# Altium footprint library WR-TBL_Rising Cage Clamp_5.08mm.PcbLib: 81 footprints (part 4 of 6)
Each footprint in its own frame and in the unit in brackets; x right, y up, seen from the top. Pads: shape width x height; smd on the part's side, far side on the other; paste and mask are expansions set on the pad; w line width, h text height; cw(c..) or ccw(c..) is an arc to the next point about the centre after c.
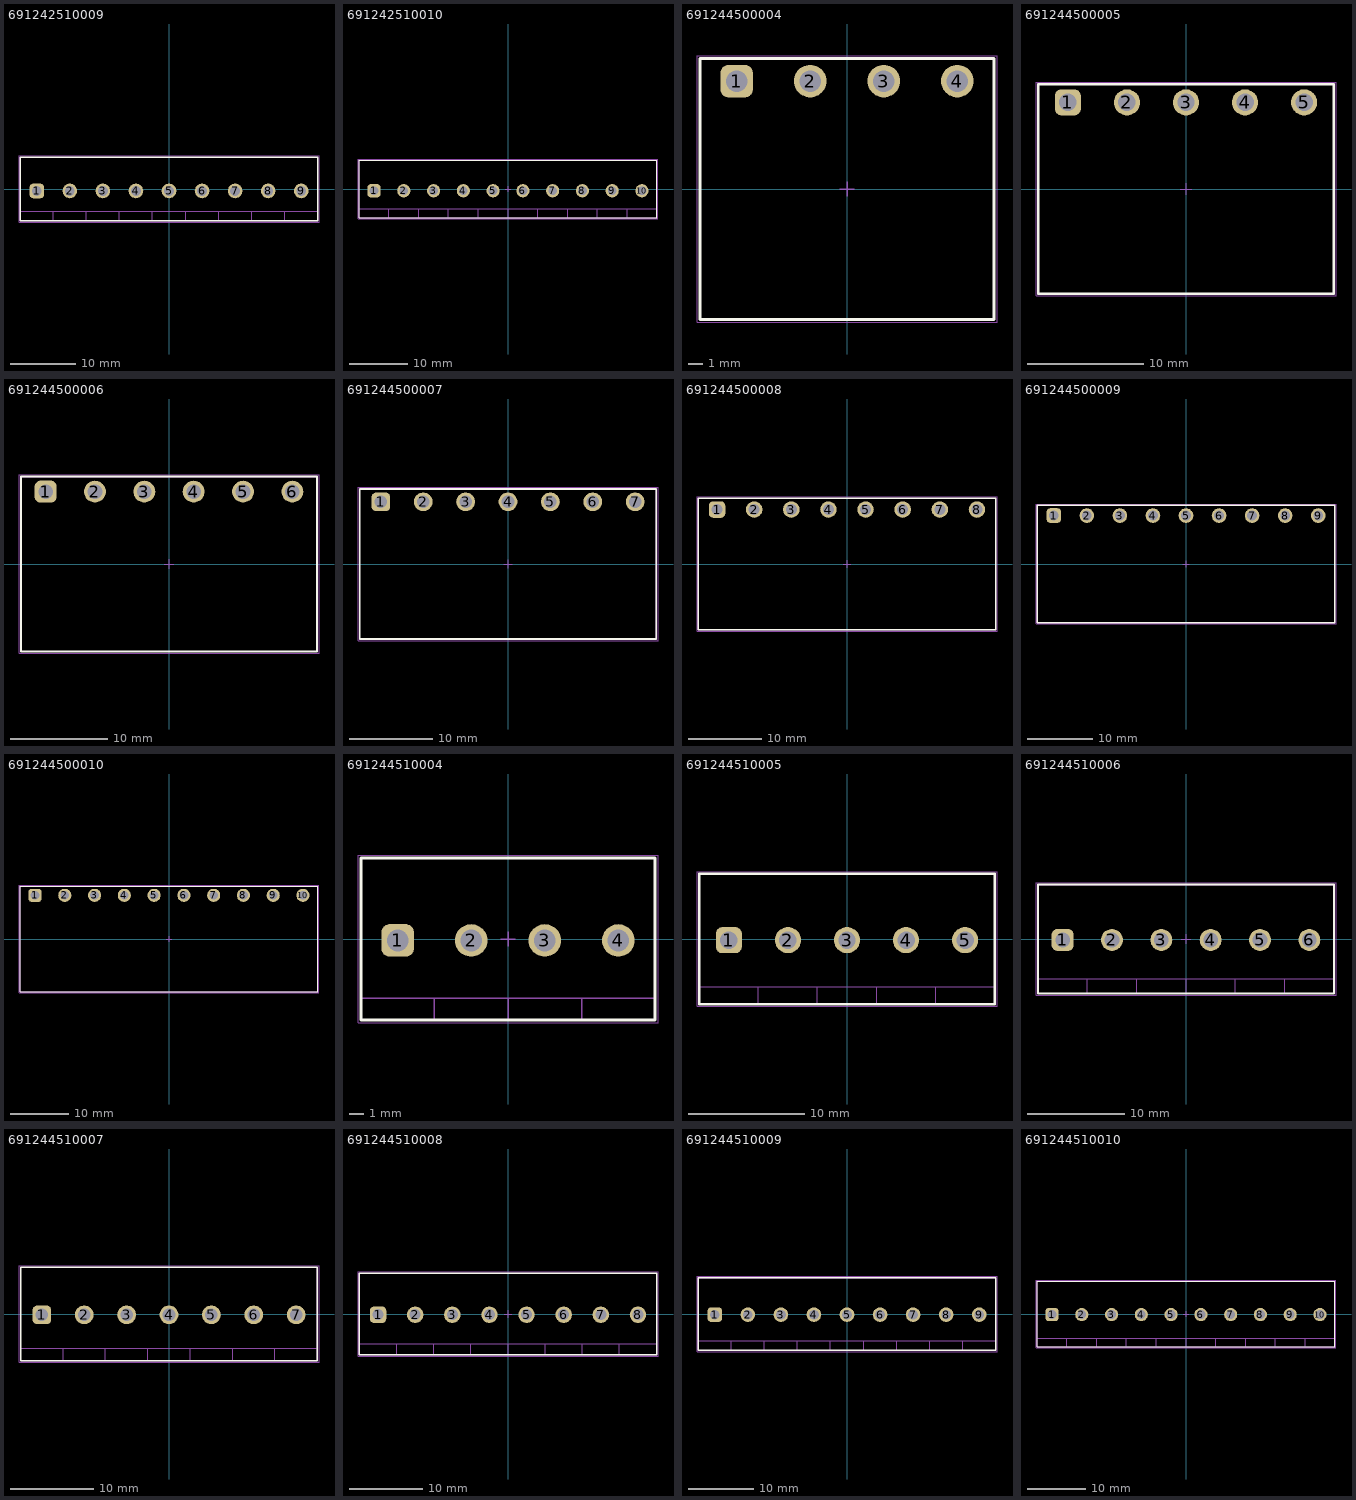
[diagram p3: the footprints below, top view; thin cyan lines are the x and y axes]

## 691242510009 [mm] "Serie 2425 - 5.08 mm _ 9 pins"
height 13.8
pads (9):
  rrect50% 2.25x2.25 hole 1.5: 1(-20.32,-0.3)
  round 2.25 hole 1.5: 2(-15.24,-0.3) 3(-10.16,-0.3) 4(-5.08,-0.3) 5(0,-0.3) 6(5.08,-0.3) 7(10.16,-0.3) 8(15.24,-0.3) 9(20.32,-0.3)
Top Overlay:
  lines w0.2: -22.86,-4.9 22.86,-4.9 22.86,4.9 -22.86,4.9 -22.86,-4.9
Top Assembly:
  lines w0.1: -22.86,-3.4 22.86,-3.4 ; -17.78,-4.9 -17.78,-3.4 ; -12.7,-4.9 -12.7,-3.4 ; -7.62,-4.9 -7.62,-3.4 ; -2.54,-4.9 -2.54,-3.4 ; 2.54,-4.9 2.54,-3.4 ; 7.62,-4.9 7.62,-3.4 ; 12.7,-4.9 12.7,-3.4 ; 17.78,-4.9 17.78,-3.4 ; -22.86,-4.9 -22.86,4.9 22.86,4.9 22.86,-4.9 -22.86,-4.9
Top Designator:
  text ".Designator" at -3.647,-0.357 h1
Top 3D Body:
  lines w0.1: -22.86,-3.4 22.86,-3.4 ; -17.78,-4.9 -17.78,-3.4 ; -12.7,-4.9 -12.7,-3.4 ; -7.62,-4.9 -7.62,-3.4 ; -2.54,-4.9 -2.54,-3.4 ; 2.54,-4.9 2.54,-3.4 ; 7.62,-4.9 7.62,-3.4 ; 12.7,-4.9 12.7,-3.4 ; 17.78,-4.9 17.78,-3.4 ; -22.86,-4.9 22.86,-4.9 22.86,4.9 -22.86,4.9 -22.86,-4.9
Top Courtyard:
  lines w0.05: -23.06,-5.1 -23.06,5.1 23.06,5.1 23.06,-5.1 -23.06,-5.1
Top Component Center:
  lines w0.1: -0.5,0 0.5,0 ; 0,-0.5 0,0.5
3D body "691242510009.stp": height 13.85, standoff -3.45, extent -22.86,-4.9 22.86,4.9

## 691242510010 [mm] "Serie 2425 - 5.08 mm _ 10 pins"
height 13.8
pads (10):
  rrect50% 2.25x2.25 hole 1.5: 1(-22.86,-0.3)
  round 2.25 hole 1.5: 2(-17.78,-0.3) 3(-12.7,-0.3) 4(-7.62,-0.3) 5(-2.54,-0.3) 6(2.54,-0.3) 7(7.62,-0.3) 8(12.7,-0.3) 9(17.78,-0.3) 10(22.86,-0.3)
Top Overlay:
  lines w0.2: -25.4,-4.9 25.4,-4.9 25.4,4.9 -25.4,4.9 -25.4,-4.9
Top Assembly:
  lines w0.1: -25.4,-3.4 25.4,-3.4 ; -20.32,-4.9 -20.32,-3.4 ; -15.24,-4.9 -15.24,-3.4 ; -10.16,-4.9 -10.16,-3.4 ; -5.08,-4.9 -5.08,-3.4 ; 0,-4.9 0,-3.4 ; 5.08,-4.9 5.08,-3.4 ; 10.16,-4.9 10.16,-3.4 ; 15.24,-4.9 15.24,-3.4 ; 20.32,-4.9 20.32,-3.4 ; -25.4,-4.9 -25.4,4.9 25.4,4.9 25.4,-4.9 -25.4,-4.9
Top Designator:
  text ".Designator" at -3.647,-0.357 h1
Top 3D Body:
  lines w0.1: -25.4,-3.4 25.4,-3.4 ; -20.32,-4.9 -20.32,-3.4 ; -15.24,-4.9 -15.24,-3.4 ; -10.16,-4.9 -10.16,-3.4 ; -5.08,-4.9 -5.08,-3.4 ; 0,-4.9 0,-3.4 ; 5.08,-4.9 5.08,-3.4 ; 10.16,-4.9 10.16,-3.4 ; 15.24,-4.9 15.24,-3.4 ; 20.32,-4.9 20.32,-3.4 ; -25.4,-4.9 25.4,-4.9 25.4,4.9 -25.4,4.9 -25.4,-4.9
Top Courtyard:
  lines w0.05: -25.6,-5.1 -25.6,5.1 25.6,5.1 25.6,-5.1 -25.6,-5.1
Top Component Center:
  lines w0.1: -0.5,0 0.5,0 ; 0,-0.5 0,0.5
3D body "691242510010.stp": height 13.85, standoff -3.45, extent -25.4,-4.9 25.4,4.9

## 691244500004 [mm] "Serie 2445 - 5.08 mm _ 4 pins"
height 11.2
pads (4):
  rrect50% 2.25x2.25 hole 1.5: 1(-7.62,7.45)
  round 2.25 hole 1.5: 2(-2.54,7.45) 3(2.54,7.45) 4(7.62,7.45)
Top Overlay:
  lines w0.2: -10.16,-9 10.16,-9 10.16,9 -10.16,9 -10.16,-9
Top Assembly:
  lines w0.1: -10.16,-9 -10.16,9 10.16,9 10.16,-9 -10.16,-9
Top Designator:
  text ".Designator" at -3.647,-0.357 h1
Top 3D Body:
  lines w0.1: -10.16,-9 10.16,-9 10.16,9 -10.16,9 -10.16,-9
Top Courtyard:
  lines w0.05: -10.36,-9.2 10.36,-9.2 10.36,9.2 -10.36,9.2 -10.36,-9.2
Top Component Center:
  lines w0.1: -0.5,0 0.5,0 ; 0,-0.5 0,0.5
3D body "691244500004.stp": height 11.25, standoff -3.95, extent -10.16,-9 10.16,9

## 691244500005 [mm] "Serie 2445 - 5.08 mm _ 5 pins"
height 11.2
pads (5):
  rrect50% 2.25x2.25 hole 1.5: 1(-10.16,7.45)
  round 2.25 hole 1.5: 2(-5.08,7.45) 3(0,7.45) 4(5.08,7.45) 5(10.16,7.45)
Top Overlay:
  lines w0.2: -12.7,-9 12.7,-9 12.7,9 -12.7,9 -12.7,-9
Top Assembly:
  lines w0.1: -12.7,-9 -12.7,9 12.7,9 12.7,-9 -12.7,-9
Top Designator:
  text ".Designator" at -3.647,-0.357 h1
Top 3D Body:
  lines w0.1: -12.7,-9 12.7,-9 12.7,9 -12.7,9 -12.7,-9
Top Courtyard:
  lines w0.05: -12.9,-9.2 12.9,-9.2 12.9,9.2 -12.9,9.2 -12.9,-9.2
Top Component Center:
  lines w0.1: -0.5,0 0.5,0 ; 0,-0.5 0,0.5
3D body "691244500005.stp": height 11.25, standoff -3.95, extent -12.7,-9 12.7,9

## 691244500006 [mm] "Serie 2445 - 5.08 mm _ 6 pins"
height 11.2
pads (6):
  rrect50% 2.25x2.25 hole 1.5: 1(-12.7,7.45)
  round 2.25 hole 1.5: 2(-7.62,7.45) 3(-2.54,7.45) 4(2.54,7.45) 5(7.62,7.45) 6(12.7,7.45)
Top Overlay:
  lines w0.2: -15.24,-9 15.24,-9 15.24,9 -15.24,9 -15.24,-9
Top Assembly:
  lines w0.1: -15.24,-9 -15.24,9 15.24,9 15.24,-9 -15.24,-9
Top Designator:
  text ".Designator" at -3.647,-0.357 h1
Top 3D Body:
  lines w0.1: -15.24,-9 15.24,-9 15.24,9 -15.24,9 -15.24,-9
Top Courtyard:
  lines w0.05: -15.44,-9.2 15.44,-9.2 15.44,9.2 -15.44,9.2 -15.44,-9.2
Top Component Center:
  lines w0.1: -0.5,0 0.5,0 ; 0,-0.5 0,0.5
3D body "691244500006.stp": height 11.25, standoff -3.95, extent -15.24,-9 15.24,9

## 691244500007 [mm] "Serie 2445 - 5.08 mm _ 7 pins"
height 11.2
pads (7):
  rrect50% 2.25x2.25 hole 1.5: 1(-15.24,7.45)
  round 2.25 hole 1.5: 2(-10.16,7.45) 3(-5.08,7.45) 4(0,7.45) 5(5.08,7.45) 6(10.16,7.45) 7(15.24,7.45)
Top Overlay:
  lines w0.2: -17.78,-9 17.78,-9 17.78,9 -17.78,9 -17.78,-9
Top Assembly:
  lines w0.1: -17.78,-9 -17.78,9 17.78,9 17.78,-9 -17.78,-9
Top Designator:
  text ".Designator" at -3.647,-0.357 h1
Top 3D Body:
  lines w0.1: -17.78,-9 17.78,-9 17.78,9 -17.78,9 -17.78,-9
Top Courtyard:
  lines w0.05: -17.98,-9.2 17.98,-9.2 17.98,9.2 -17.98,9.2 -17.98,-9.2
Top Component Center:
  lines w0.1: -0.5,0 0.5,0 ; 0,-0.5 0,0.5
3D body "691244500007.stp": height 11.25, standoff -3.95, extent -17.78,-9 17.78,9

## 691244500008 [mm] "Serie 2445 - 5.08 mm _ 8 pins"
height 11.2
pads (8):
  rrect50% 2.25x2.25 hole 1.5: 1(-17.78,7.45)
  round 2.25 hole 1.5: 2(-12.7,7.45) 3(-7.62,7.45) 4(-2.54,7.45) 5(2.54,7.45) 6(7.62,7.45) 7(12.7,7.45) 8(17.78,7.45)
Top Overlay:
  lines w0.2: -20.32,-9 20.32,-9 20.32,9 -20.32,9 -20.32,-9
Top Assembly:
  lines w0.1: -20.32,-9 -20.32,9 20.32,9 20.32,-9 -20.32,-9
Top Designator:
  text ".Designator" at -3.647,-0.357 h1
Top 3D Body:
  lines w0.1: -20.32,-9 20.32,-9 20.32,9 -20.32,9 -20.32,-9
Top Courtyard:
  lines w0.05: -20.52,-9.2 20.52,-9.2 20.52,9.2 -20.52,9.2 -20.52,-9.2
Top Component Center:
  lines w0.1: -0.5,0 0.5,0 ; 0,-0.5 0,0.5
3D body "691244500008.stp": height 11.25, standoff -3.95, extent -20.32,-9 20.32,9

## 691244500009 [mm] "Serie 2445 - 5.08 mm _ 9 pins"
height 11.2
pads (9):
  rrect50% 2.25x2.25 hole 1.5: 1(-20.32,7.45)
  round 2.25 hole 1.5: 2(-15.24,7.45) 3(-10.16,7.45) 4(-5.08,7.45) 5(0,7.45) 6(5.08,7.45) 7(10.16,7.45) 8(15.24,7.45) 9(20.32,7.45)
Top Overlay:
  lines w0.2: -22.86,-9 -22.86,9 22.86,9 22.86,-9 -22.86,-9
Top Assembly:
  lines w0.1: -22.86,-9 22.86,-9 22.86,9 -22.86,9 -22.86,-9
Top Designator:
  text ".Designator" at -3.647,-0.357 h1
Top 3D Body:
  lines w0.1: -22.86,-9 -22.86,9 22.86,9 22.86,-9 -22.86,-9
Top Courtyard:
  lines w0.05: -23.06,-9.2 -23.06,9.2 23.06,9.2 23.06,-9.2 -23.06,-9.2
Top Component Center:
  lines w0.1: -0.5,0 0.5,0 ; 0,-0.5 0,0.5
3D body "691244500009.stp": height 11.25, standoff -3.95, extent -22.86,-9 22.86,9

## 691244500010 [mm] "Serie 2445 - 5.08 mm _ 10 pins"
height 11.2
pads (10):
  rrect50% 2.25x2.25 hole 1.5: 1(-22.86,7.45)
  round 2.25 hole 1.5: 2(-17.78,7.45) 3(-12.7,7.45) 4(-7.62,7.45) 5(-2.54,7.45) 6(2.54,7.45) 7(7.62,7.45) 8(12.7,7.45) 9(17.78,7.45) 10(22.86,7.45)
Top Overlay:
  lines w0.2: -25.4,-9 -25.4,9 25.4,9 25.4,-9 -25.4,-9
Top Assembly:
  lines w0.1: -25.4,-9 25.4,-9 25.4,9 -25.4,9 -25.4,-9
Top Designator:
  text ".Designator" at -3.647,-0.357 h1
Top 3D Body:
  lines w0.1: -25.4,-9 -25.4,9 25.4,9 25.4,-9 -25.4,-9
Top Courtyard:
  lines w0.05: -25.6,-9.2 -25.6,9.2 25.6,9.2 25.6,-9.2 -25.6,-9.2
Top Component Center:
  lines w0.1: -0.5,0 0.5,0 ; 0,-0.5 0,0.5
3D body "691244500010.stp": height 11.25, standoff -3.95, extent -25.4,-9 25.4,9

## 691244510004 [mm] "Serie 2445 - 5.08 mm _ 4 pins"
height 18
pads (4):
  rrect50% 2.25x2.25 hole 1.5: 1(-7.62,-0.1)
  round 2.25 hole 1.5: 2(-2.54,-0.1) 3(2.54,-0.1) 4(7.62,-0.1)
Top Overlay:
  lines w0.2: -10.16,-5.6 -10.16,5.6 10.16,5.6 10.16,-5.6 -10.16,-5.6
Top Assembly:
  lines w0.1: -10.16,-4.1 10.16,-4.1 ; -5.08,-5.6 -5.08,-4.1 ; 0,-5.6 0,-4.1 ; 5.08,-5.6 5.08,-4.1 ; -10.16,-5.6 10.16,-5.6 10.16,5.6 -10.16,5.6 -10.16,-5.6
Top Designator:
  text ".Designator" at -3.647,-0.357 h1
Top 3D Body:
  lines w0.1: -10.16,-4.1 10.16,-4.1 ; -5.08,-5.6 -5.08,-4.1 ; 0,-5.6 0,-4.1 ; 5.08,-5.6 5.08,-4.1 ; -10.16,-5.6 -10.16,5.6 10.16,5.6 10.16,-5.6 -10.16,-5.6
Top Courtyard:
  lines w0.05: -10.36,-5.8 10.36,-5.8 10.36,5.8 -10.36,5.8 -10.36,-5.8
Top Component Center:
  lines w0.1: -0.5,0 0.5,0 ; 0,-0.5 0,0.5
3D body "691244510004.stp": height 18.1, standoff -3.9, extent -10.16,-5.6 10.16,5.6

## 691244510005 [mm] "Serie 2445 - 5.08 mm _ 5 pins"
height 18
pads (5):
  rrect50% 2.25x2.25 hole 1.5: 1(-10.16,-0.1)
  round 2.25 hole 1.5: 2(-5.08,-0.1) 3(0,-0.1) 4(5.08,-0.1) 5(10.16,-0.1)
Top Overlay:
  lines w0.2: -12.7,-5.6 12.7,-5.6 12.7,5.6 -12.7,5.6 -12.7,-5.6
Top Assembly:
  lines w0.1: -12.7,-4.1 12.7,-4.1 ; -7.62,-5.6 -7.62,-4.1 ; -2.54,-5.6 -2.54,-4.1 ; 2.54,-5.6 2.54,-4.1 ; 7.62,-5.6 7.62,-4.1 ; -12.7,-5.6 -12.7,5.6 12.7,5.6 12.7,-5.6 -12.7,-5.6
Top Designator:
  text ".Designator" at -3.647,-0.357 h1
Top 3D Body:
  lines w0.1: -12.7,-4.1 12.7,-4.1 ; -7.62,-5.6 -7.62,-4.1 ; -2.54,-5.6 -2.54,-4.1 ; 2.54,-5.6 2.54,-4.1 ; 7.62,-5.6 7.62,-4.1 ; -12.7,-5.6 12.7,-5.6 12.7,5.6 -12.7,5.6 -12.7,-5.6
Top Courtyard:
  lines w0.05: -12.9,-5.8 -12.9,5.8 12.9,5.8 12.9,-5.8 -12.9,-5.8
Top Component Center:
  lines w0.1: -0.5,0 0.5,0 ; 0,-0.5 0,0.5
3D body "691244510005.stp": height 18.1, standoff -3.9, extent -12.7,-5.6 12.7,5.6

## 691244510006 [mm] "Serie 2445 - 5.08 mm _ 6 pins"
height 18
pads (6):
  rrect50% 2.25x2.25 hole 1.5: 1(-12.7,-0.1)
  round 2.25 hole 1.5: 2(-7.62,-0.1) 3(-2.54,-0.1) 4(2.54,-0.1) 5(7.62,-0.1) 6(12.7,-0.1)
Top Overlay:
  lines w0.2: -15.24,-5.6 -15.24,5.6 15.24,5.6 15.24,-5.6 -15.24,-5.6
Top Assembly:
  lines w0.1: -15.24,-4.1 15.24,-4.1 ; -10.16,-5.6 -10.16,-4.1 ; -5.08,-5.6 -5.08,-4.1 ; 0,-5.6 0,-4.1 ; 5.08,-5.6 5.08,-4.1 ; 10.16,-5.6 10.16,-4.1 ; -15.24,-5.6 15.24,-5.6 15.24,5.6 -15.24,5.6 -15.24,-5.6
Top Designator:
  text ".Designator" at -3.647,-0.357 h1
Top 3D Body:
  lines w0.1: -15.24,-4.1 15.24,-4.1 ; -10.16,-5.6 -10.16,-4.1 ; -5.08,-5.6 -5.08,-4.1 ; 0,-5.6 0,-4.1 ; 5.08,-5.6 5.08,-4.1 ; 10.16,-5.6 10.16,-4.1 ; -15.24,-5.6 -15.24,5.6 15.24,5.6 15.24,-5.6 -15.24,-5.6
Top Courtyard:
  lines w0.05: -15.44,-5.8 15.44,-5.8 15.44,5.8 -15.44,5.8 -15.44,-5.8
Top Component Center:
  lines w0.1: -0.5,0 0.5,0 ; 0,-0.5 0,0.5
3D body "691244510006.stp": height 18.1, standoff -3.9, extent -15.24,-5.6 15.24,5.6

## 691244510007 [mm] "Serie 2445 - 5.08 mm _ 7 pins"
height 18
pads (7):
  rrect50% 2.25x2.25 hole 1.5: 1(-15.24,-0.1)
  round 2.25 hole 1.5: 2(-10.16,-0.1) 3(-5.08,-0.1) 4(0,-0.1) 5(5.08,-0.1) 6(10.16,-0.1) 7(15.24,-0.1)
Top Overlay:
  lines w0.2: -17.78,-5.6 17.78,-5.6 17.78,5.6 -17.78,5.6 -17.78,-5.6
Top Assembly:
  lines w0.1: -17.78,-4.1 17.78,-4.1 ; -12.7,-5.6 -12.7,-4.1 ; -7.62,-5.6 -7.62,-4.1 ; -2.54,-5.6 -2.54,-4.1 ; 2.54,-5.6 2.54,-4.1 ; 7.62,-5.6 7.62,-4.1 ; 12.7,-5.6 12.7,-4.1 ; -17.78,-5.6 -17.78,5.6 17.78,5.6 17.78,-5.6 -17.78,-5.6
Top Designator:
  text ".Designator" at -3.647,-0.357 h1
Top 3D Body:
  lines w0.1: -17.78,-4.1 17.78,-4.1 ; -12.7,-5.6 -12.7,-4.1 ; -7.62,-5.6 -7.62,-4.1 ; -2.54,-5.6 -2.54,-4.1 ; 2.54,-5.6 2.54,-4.1 ; 7.62,-5.6 7.62,-4.1 ; 12.7,-5.6 12.7,-4.1 ; -17.78,-5.6 17.78,-5.6 17.78,5.6 -17.78,5.6 -17.78,-5.6
Top Courtyard:
  lines w0.05: -17.98,-5.8 -17.98,5.8 17.98,5.8 17.98,-5.8 -17.98,-5.8
Top Component Center:
  lines w0.1: -0.5,0 0.5,0 ; 0,-0.5 0,0.5
3D body "691244510007.stp": height 18.1, standoff -3.9, extent -17.78,-5.6 17.78,5.6

## 691244510008 [mm] "Serie 2445 - 5.08 mm _ 8 pins"
height 18
pads (8):
  rrect50% 2.25x2.25 hole 1.5: 1(-17.78,-0.1)
  round 2.25 hole 1.5: 2(-12.7,-0.1) 3(-7.62,-0.1) 4(-2.54,-0.1) 5(2.54,-0.1) 6(7.62,-0.1) 7(12.7,-0.1) 8(17.78,-0.1)
Top Overlay:
  lines w0.2: -20.32,-5.6 20.32,-5.6 20.32,5.6 -20.32,5.6 -20.32,-5.6
Top Assembly:
  lines w0.1: -20.32,-4.1 20.32,-4.1 ; -15.24,-5.6 -15.24,-4.1 ; -10.16,-5.6 -10.16,-4.1 ; -5.08,-5.6 -5.08,-4.1 ; 0,-5.6 0,-4.1 ; 5.08,-5.6 5.08,-4.1 ; 10.16,-5.6 10.16,-4.1 ; 15.24,-5.6 15.24,-4.1 ; -20.32,-5.6 -20.32,5.6 20.32,5.6 20.32,-5.6 -20.32,-5.6
Top Designator:
  text ".Designator" at -3.647,-0.357 h1
Top 3D Body:
  lines w0.1: -20.32,-4.1 20.32,-4.1 ; -15.24,-5.6 -15.24,-4.1 ; -10.16,-5.6 -10.16,-4.1 ; -5.08,-5.6 -5.08,-4.1 ; 0,-5.6 0,-4.1 ; 5.08,-5.6 5.08,-4.1 ; 10.16,-5.6 10.16,-4.1 ; 15.24,-5.6 15.24,-4.1 ; -20.32,-5.6 20.32,-5.6 20.32,5.6 -20.32,5.6 -20.32,-5.6
Top Courtyard:
  lines w0.05: -20.52,-5.8 -20.52,5.8 20.52,5.8 20.52,-5.8 -20.52,-5.8
Top Component Center:
  lines w0.1: -0.5,0 0.5,0 ; 0,-0.5 0,0.5
3D body "691244510008.stp": height 18.1, standoff -3.9, extent -20.32,-5.6 20.32,5.6

## 691244510009 [mm] "Serie 2445 - 5.08 mm _ 9 pins"
height 18
pads (9):
  rrect50% 2.25x2.25 hole 1.5: 1(-20.32,-0.1)
  round 2.25 hole 1.5: 2(-15.24,-0.1) 3(-10.16,-0.1) 4(-5.08,-0.1) 5(0,-0.1) 6(5.08,-0.1) 7(10.16,-0.1) 8(15.24,-0.1) 9(20.32,-0.1)
Top Overlay:
  lines w0.2: -22.86,-5.6 -22.86,5.6 22.86,5.6 22.86,-5.6 -22.86,-5.6
Top Assembly:
  lines w0.1: -22.86,-4.1 22.86,-4.1 ; -17.78,-5.6 -17.78,-4.1 ; -12.7,-5.6 -12.7,-4.1 ; -7.62,-5.6 -7.62,-4.1 ; -2.54,-5.6 -2.54,-4.1 ; 2.54,-5.6 2.54,-4.1 ; 7.62,-5.6 7.62,-4.1 ; 12.7,-5.6 12.7,-4.1 ; 17.78,-5.6 17.78,-4.1 ; -22.86,-5.6 22.86,-5.6 22.86,5.6 -22.86,5.6 -22.86,-5.6
Top Designator:
  text ".Designator" at -3.647,-0.357 h1
Top 3D Body:
  lines w0.1: -22.86,-4.1 22.86,-4.1 ; -17.78,-5.6 -17.78,-4.1 ; -12.7,-5.6 -12.7,-4.1 ; -7.62,-5.6 -7.62,-4.1 ; -2.54,-5.6 -2.54,-4.1 ; 2.54,-5.6 2.54,-4.1 ; 7.62,-5.6 7.62,-4.1 ; 12.7,-5.6 12.7,-4.1 ; 17.78,-5.6 17.78,-4.1 ; -22.86,-5.6 -22.86,5.6 22.86,5.6 22.86,-5.6 -22.86,-5.6
Top Courtyard:
  lines w0.05: -23.06,-5.8 23.06,-5.8 23.06,5.8 -23.06,5.8 -23.06,-5.8
Top Component Center:
  lines w0.1: -0.5,0 0.5,0 ; 0,-0.5 0,0.5
3D body "691244510009.stp": height 18.1, standoff -3.9, extent -22.86,-5.6 22.86,5.6

## 691244510010 [mm] "Serie 2445 - 5.08 mm _ 10 pins"
height 18
pads (10):
  rrect50% 2.25x2.25 hole 1.5: 1(-22.86,-0.1)
  round 2.25 hole 1.5: 2(-17.78,-0.1) 3(-12.7,-0.1) 4(-7.62,-0.1) 5(-2.54,-0.1) 6(2.54,-0.1) 7(7.62,-0.1) 8(12.7,-0.1) 9(17.78,-0.1) 10(22.86,-0.1)
Top Overlay:
  lines w0.2: -25.4,-5.6 25.4,-5.6 25.4,5.6 -25.4,5.6 -25.4,-5.6
Top Assembly:
  lines w0.1: -25.4,-4.1 25.4,-4.1 ; -20.32,-5.6 -20.32,-4.1 ; -15.24,-5.6 -15.24,-4.1 ; -10.16,-5.6 -10.16,-4.1 ; -5.08,-5.6 -5.08,-4.1 ; 0,-5.6 0,-4.1 ; 5.08,-5.6 5.08,-4.1 ; 10.16,-5.6 10.16,-4.1 ; 15.24,-5.6 15.24,-4.1 ; 20.32,-5.6 20.32,-4.1 ; -25.4,-5.6 -25.4,5.6 25.4,5.6 25.4,-5.6 -25.4,-5.6
Top Designator:
  text ".Designator" at -3.647,-0.357 h1
Top 3D Body:
  lines w0.1: -25.4,-4.1 25.4,-4.1 ; -20.32,-5.6 -20.32,-4.1 ; -15.24,-5.6 -15.24,-4.1 ; -10.16,-5.6 -10.16,-4.1 ; -5.08,-5.6 -5.08,-4.1 ; 0,-5.6 0,-4.1 ; 5.08,-5.6 5.08,-4.1 ; 10.16,-5.6 10.16,-4.1 ; 15.24,-5.6 15.24,-4.1 ; 20.32,-5.6 20.32,-4.1 ; -25.4,-5.6 25.4,-5.6 25.4,5.6 -25.4,5.6 -25.4,-5.6
Top Courtyard:
  lines w0.05: -25.6,-5.8 -25.6,5.8 25.6,5.8 25.6,-5.8 -25.6,-5.8
Top Component Center:
  lines w0.1: -0.5,0 0.5,0 ; 0,-0.5 0,0.5
3D body "691244510010.stp": height 18.1, standoff -3.9, extent -25.4,-5.6 25.4,5.6